# Altium schematic symbol library LDK320ADU120R.SchLib: 1 symbol
Pins are listed as number, name and electrical type; pins without a type are passive.

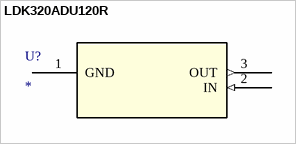
[diagram p0: symbol LDK320ADU120R]

## LDK320ADU120R
designator U?
No Description Available; Mfr_Name: STMicroelectronics; RefDes: RefDes; Type: Type
footprint SOT-89_STM
pins: 1 GND (power), 2 IN (in), 3 OUT (out)